# Altium schematic symbol library EXB28V472JX.SchLib: 2 symbols
Pins are listed as number, name and electrical type; pins without a type are passive.

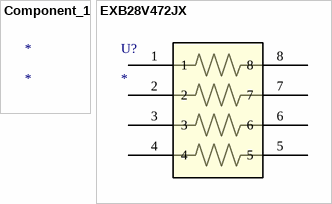
[diagram p0: symbols Component_1 to EXB28V472JX]

## Component_1
designator *

## EXB28V472JX
designator U?
No Description Available; Mfr_Name: Panasonic; RefDes: RefDes; Type: Type
footprint C_ARRAY_EXB28V_PAN
pins: 1, 2, 3, 4, 5, 6, 7, 8